# EAGLE library part UBC-UC3842B (library GClueSupply)
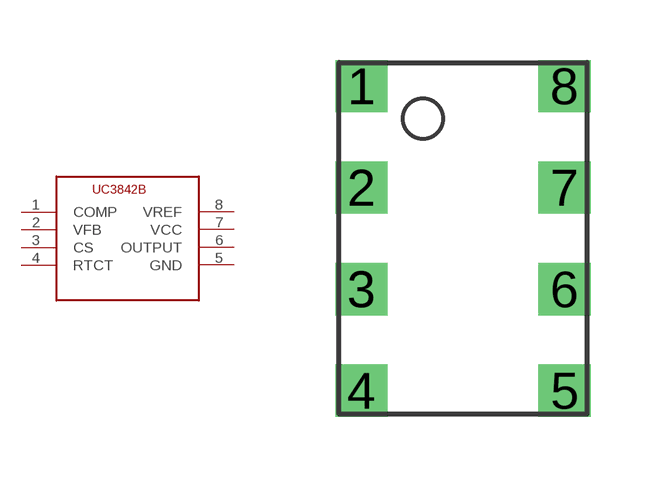
[diagram p1: symbol with the pads of UTC-UC3842B; footprint UTC-UC3842B]

Designator prefix -

## UBC-UC3842B  [UTC-UC3842B]
1  COMP
2  VFB
3  CS
4  RTCT
5  GND
6  OUTPUT
7  VCC
8  VREF

## Footprint UTC-UC3842B (pad centres in mm)
drill 0.8 square: 1 -2.54,3.81; 2 -2.54,1.27; 3 -2.54,-1.27; 4 -2.54,-3.81; 5 2.54,-3.81; 6 2.54,-1.27; 7 2.54,1.27; 8 2.54,3.81